# Altium footprint library hxz.PcbLib: 17 footprints (part 2 of 2)
Each footprint in its own frame and in the unit in brackets; x right, y up, seen from the top. Pads: shape width x height; smd on the part's side, far side on the other; paste and mask are expansions set on the pad; w line width, h text height; cw(c..) or ccw(c..) is an arc to the next point about the centre after c.
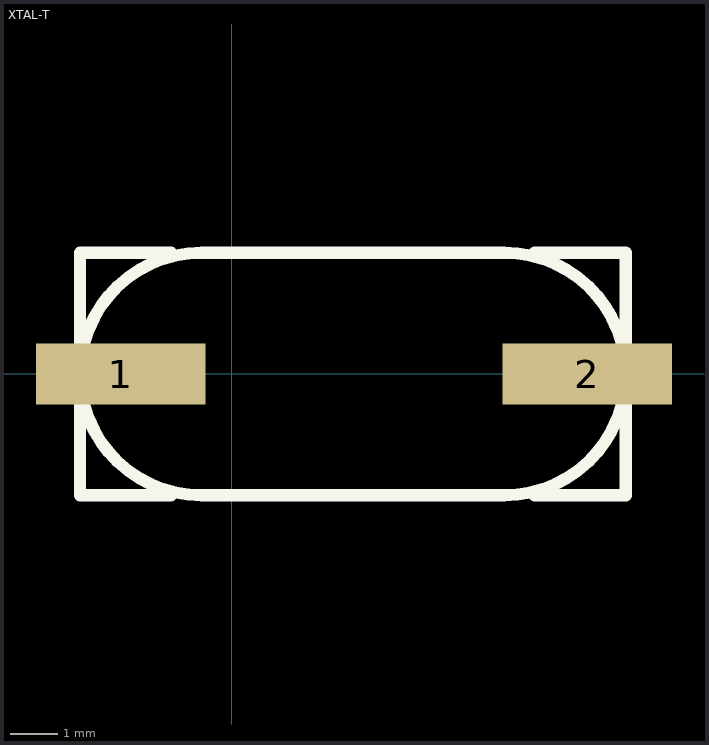
[diagram p1: the footprint, top view; thin cyan lines are the x and y axes]

## XTAL-T [mil]
height 30
pads (2):
  rect 140x50 smd: 1(-91.53,0) 2(293.31,0)
Top Overlay:
  lines w10: -50,-100 -125,-100 -125,100 -50,100 ; 250,-100 325,-100 325,100 250,100 ; -25,-100 cw(c-25,0) -25,100 225,100 cw(c225,0) 225,-100 -25,-100